# Altium footprint library 662106136022.PcbLib: 1 footprints
Each footprint in its own frame and in the unit in brackets; x right, y up, seen from the top. Pads: shape width x height; smd on the part's side, far side on the other; paste and mask are expansions set on the pad; w line width, h text height; cw(c..) or ccw(c..) is an arc to the next point about the centre after c.
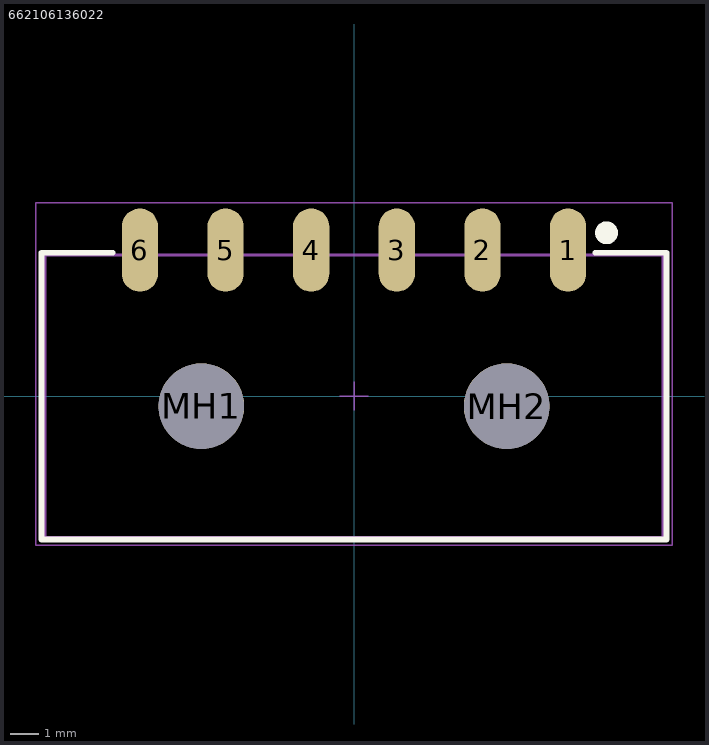
[diagram p0: the footprint, top view; thin cyan lines are the x and y axes]

## 662106136022 [mm]
pads (8):
  oval 1.27x2.92 smd: 1(7.5,5.12) 2(4.5,5.12) 3(1.5,5.12) 4(-1.5,5.12) 5(-4.5,5.12) 6(-7.5,5.12)
  round 3 hole 3 unplated: MH1(-5.35,-0.35) MH2(5.35,-0.35)
Top Overlay:
  circle w0.4: c8.85,5.725 r0.2
  lines w0.2: -8.45,5.025 -10.95,5.025 -10.95,-5.025 10.95,-5.025 10.95,5.025 8.45,5.025
Top Assembly:
  lines w0.1: -10.825,-4.95 10.825,-4.95 10.825,4.95 -10.825,4.95 -10.825,-4.95
Top Courtyard:
  lines w0.05: -0.5,0 0.5,0 ; 0,-0.5 0,0.5 ; -11.15,-5.225 11.15,-5.225 11.15,6.78 -11.15,6.78 -11.15,-5.225
3D body "662106136022.stp": height 5.6, standoff -3.17, extent -10.825,-4.95 10.825,6.398